# EAGLE library part DRV8835DSSR (library DRV8835)
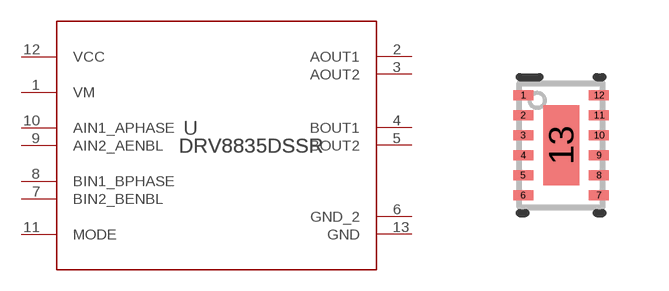
[diagram p0: symbol with the pads of DSS0012A; footprint DSS0012A]

Designator prefix U

## DRV8835DSSR (MANUFACTURER: Texas Instruments; PARTNUMBER: DRV8835DSSR; REFDES: RefDes; TYPE: TYPE; VALUE: Value)  [DSS0012A]
1  VM  pwr
2  AOUT1  out
3  AOUT2  out
4  BOUT1  out
5  BOUT2  out
6  GND_2  pwr
7  BIN2_BENBL  in
8  BIN1_BPHASE  in
9  AIN2_AENBL  in
10  AIN1_APHASE  in
11  MODE  in
12  VCC  pwr
13  GND  pwr

## Footprint DSS0012A (pad centres in mm)
smd 0.5 x 0.25: 1 -0.95,1.25; 2 -0.95,0.75; 3 -0.95,0.25; 4 -0.95,-0.25; 5 -0.95,-0.75; 6 -0.95,-1.25; 7 0.95,-1.25; 8 0.95,-0.75; 9 0.95,-0.25; 10 0.95,0.25; 11 0.95,0.75; 12 0.95,1.25
smd 0.9 x 2: 13 0,0